# EAGLE library part DOTMATRIX (library display)
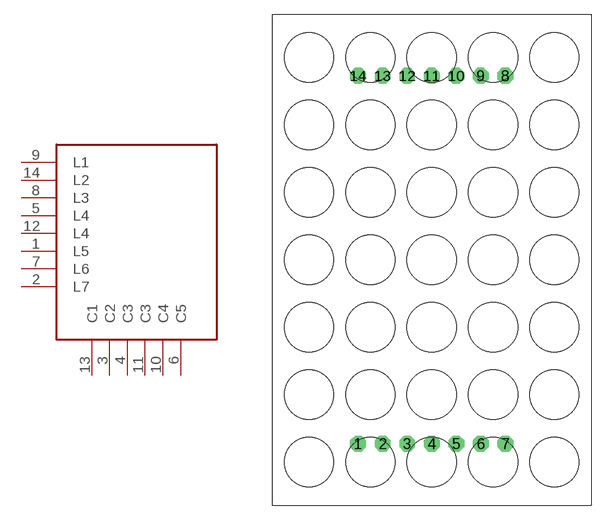
[diagram p4: symbol with the pads of DTM57; footprint DTM57]

Designator prefix -

## DOTMATRIX  [DTM57]
1  L5
2  L7
3  C2
4  C3
5  L4
6  C5
7  L6
8  L3
9  L1
10  C4
11  C3
12  L4
13  C1
14  L2

## Footprint DTM57 (pad centres in mm)
drill 1.1 octagon: 1 -7.62,-19.05; 2 -5.08,-19.05; 3 -2.54,-19.05; 4 0,-19.05; 5 2.54,-19.05; 6 5.08,-19.05; 7 7.62,-19.05; 8 7.62,19.05; 9 5.08,19.05; 10 2.54,19.05; 11 0,19.05; 12 -2.54,19.05; 13 -5.08,19.05; 14 -7.62,19.05